# EAGLE library part 68801011722 (library Wire-to-Board (rev18a))
WR-WTB 2.50mm "J"Type Male Horizontal Shrouded Header, 10 Pins=>Code : WTB_2.50-J_PCB_THT_68801011722 <http://katalog.we-online.de/media/thumbs2/eican/thb_Con_WTB_2.50-J_PCB_THT_6880xx11722_pf2%20(2).jpg> Details see: http://katalog.we-online.de/en/em/WTB_2_50_J_TYPE_HORIZONTAL_MALE_SHROUDED_HEADER_6880XX11722 Created 2014-06-05, Karrer Zheng 2014 (C) Würth Elektronik
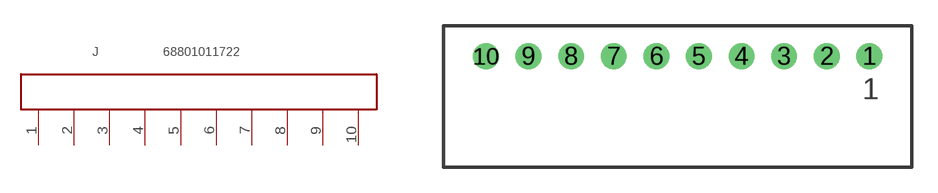
[diagram p22: symbol with the pads of 68801011722; footprint 68801011722]

Designator prefix J

## 68801011722  [68801011722]
1  10  pas
2  9  pas
3  8  pas
4  7  pas
5  6  pas
6  5  pas
7  4  pas
8  3  pas
9  2  pas
10  1  pas

## Footprint 68801011722 (pad centres in mm)
WR-WTB 2.50mm "J" Type Male Horizontal Shrouded Header, 10 Pins
drill 1: 1 11.25,2.35; 2 8.75,2.35; 3 6.25,2.35; 4 3.75,2.35; 5 1.25,2.35; 6 -1.25,2.35; 7 -3.75,2.35; 8 -6.25,2.35; 9 -8.75,2.35; 10 -11.25,2.35